# Altium schematic symbol library ESP8266.SchLib: 2 symbols
Pins are listed as number, name and electrical type; pins without a type are passive.

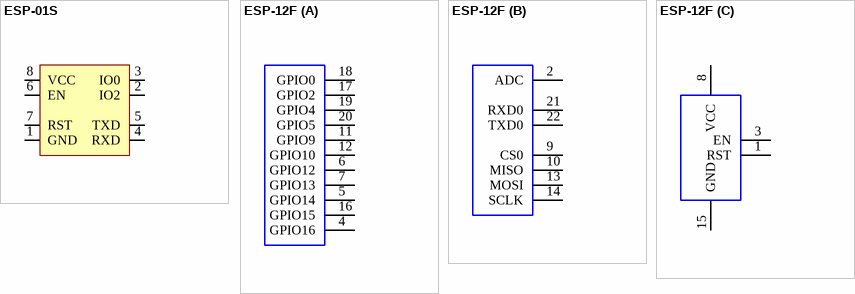
[diagram p0: symbols ESP-01S to ESP-12F]

## ESP-01S
designator M?
ESP8266-01S Modul
pins: 1 GND, 2 IO2, 3 IO0, 4 RXD, 5 TXD, 6 EN, 7 RST, 8 VCC

## ESP-12F
designator M?
ESP8266-12F Modul
part A pins: 4 GPIO16, 5 GPIO14, 6 GPIO12, 7 GPIO13, 11 GPIO9, 12 GPIO10, 16 GPIO15, 17 GPIO2, 18 GPIO0, 19 GPIO4, 20 GPIO5
part B pins: 2 ADC, 9 CS0, 10 MISO, 13 MOSI, 14 SCLK, 21 RXD0, 22 TXD0
part C pins: 1 RST, 3 EN, 8 VCC, 15 GND